# EAGLE library part 557785-1 (library con-amp_edit)
AMP connector
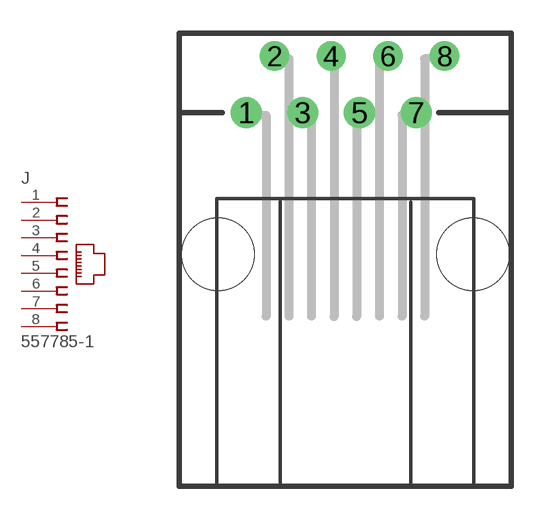
[diagram p56: symbol with the pads of 557785-1; footprint 557785-1]

Designator prefix J

## 557785-1  [557785-1]
1  1  pas
2  2  pas
3  3  pas
4  4  pas
5  5  pas
6  6  pas
7  7  pas
8  8  pas

## Footprint 557785-1 (pad centres in mm)
Modular Jack
drill 0.889: 1 -4.445,6.35; 3 -1.905,6.35; 5 0.635,6.35; 7 3.175,6.35
drill 0.813: 2 -3.175,8.89; 4 -0.635,8.89; 6 1.905,8.89; 8 4.445,8.89
hole 3.251 at -5.715,0
hole 3.251 at 5.715,0